# Altium schematic symbol library Filter.SchLib: 1 symbol
Pins are listed as number, name and electrical type; pins without a type are passive.

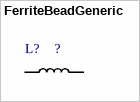
[diagram p0: symbol FerriteBeadGeneric]

## FerriteBeadGeneric
designator L?, comment ?
Name: ?
pins: 1, 2